# Altium footprint library CUI_PJ-007.PcbLib: 1 footprints
Each footprint in its own frame and in the unit in brackets; x right, y up, seen from the top. Pads: shape width x height; smd on the part's side, far side on the other; paste and mask are expansions set on the pad; w line width, h text height; cw(c..) or ccw(c..) is an arc to the next point about the centre after c.
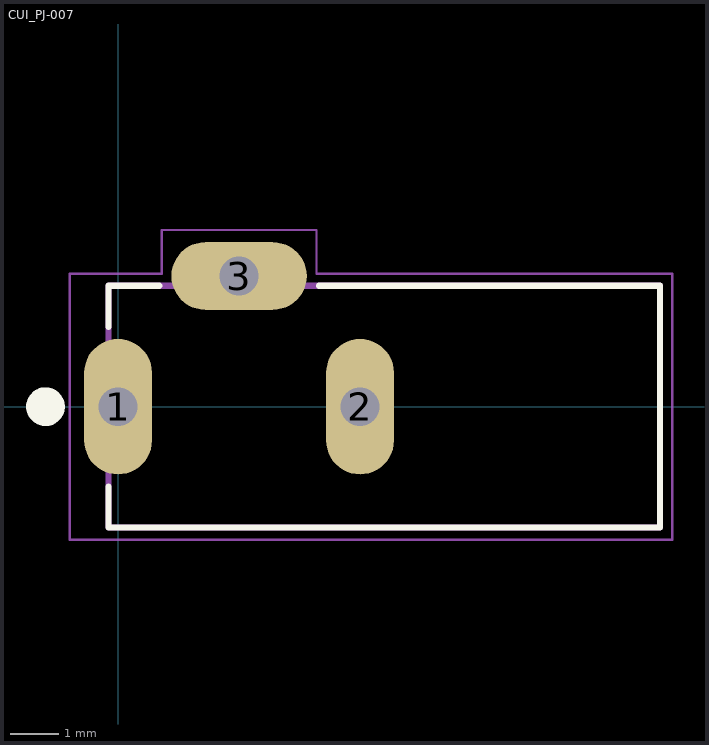
[diagram p0: the footprint, top view; thin cyan lines are the x and y axes]

## CUI_PJ-007 [mm]
pads (3):
  oval 1.4x2.8 hole 0.8: 1(0,0) 2(5,0)
  oval 2.8x1.4 hole 0.8: 3(2.5,2.7)
Top Overlay:
  circle w0.4: c-1.5,0 r0.2
  lines w0.127: -0.2,-1.65 -0.2,-2.5 11.2,-2.5 11.2,2.5 4.15,2.5 ; -0.2,1.65 -0.2,2.5 0.85,2.5
Mechanical 1:
  lines w0: -0.4,-0.75 0.4,-0.75 0.4,0.75 -0.4,0.75 -0.4,-0.75 ; 1.75,2.3 3.25,2.3 3.25,3.1 1.75,3.1 1.75,2.3 ; 4.6,-0.75 5.4,-0.75 5.4,0.75 4.6,0.75 4.6,-0.75
Mechanical 4:
  lines w0.127: -0.2,-2.5 11.2,-2.5 ; -0.2,-2.5 -0.2,2.5 ; -0.2,-2.5 11.2,-2.5 ; -0.2,-2.5 -0.2,2.5 ; -0.2,2.5 11.2,2.5 ; -0.2,2.5 11.2,2.5 ; 11.2,-2.5 11.2,2.5 ; 11.2,-2.5 11.2,2.5
Mechanical 15:
  lines w0.05: -1,-2.75 -1,2.75 0.9,2.75 0.9,3.65 4.1,3.65 4.1,2.75 11.45,2.75 11.45,-2.75 -1,-2.75